# Altium schematic symbol library jetson-nano-baseboard.SchLib: 105 symbols
Pins are listed as number, name and electrical type; pins without a type are passive.

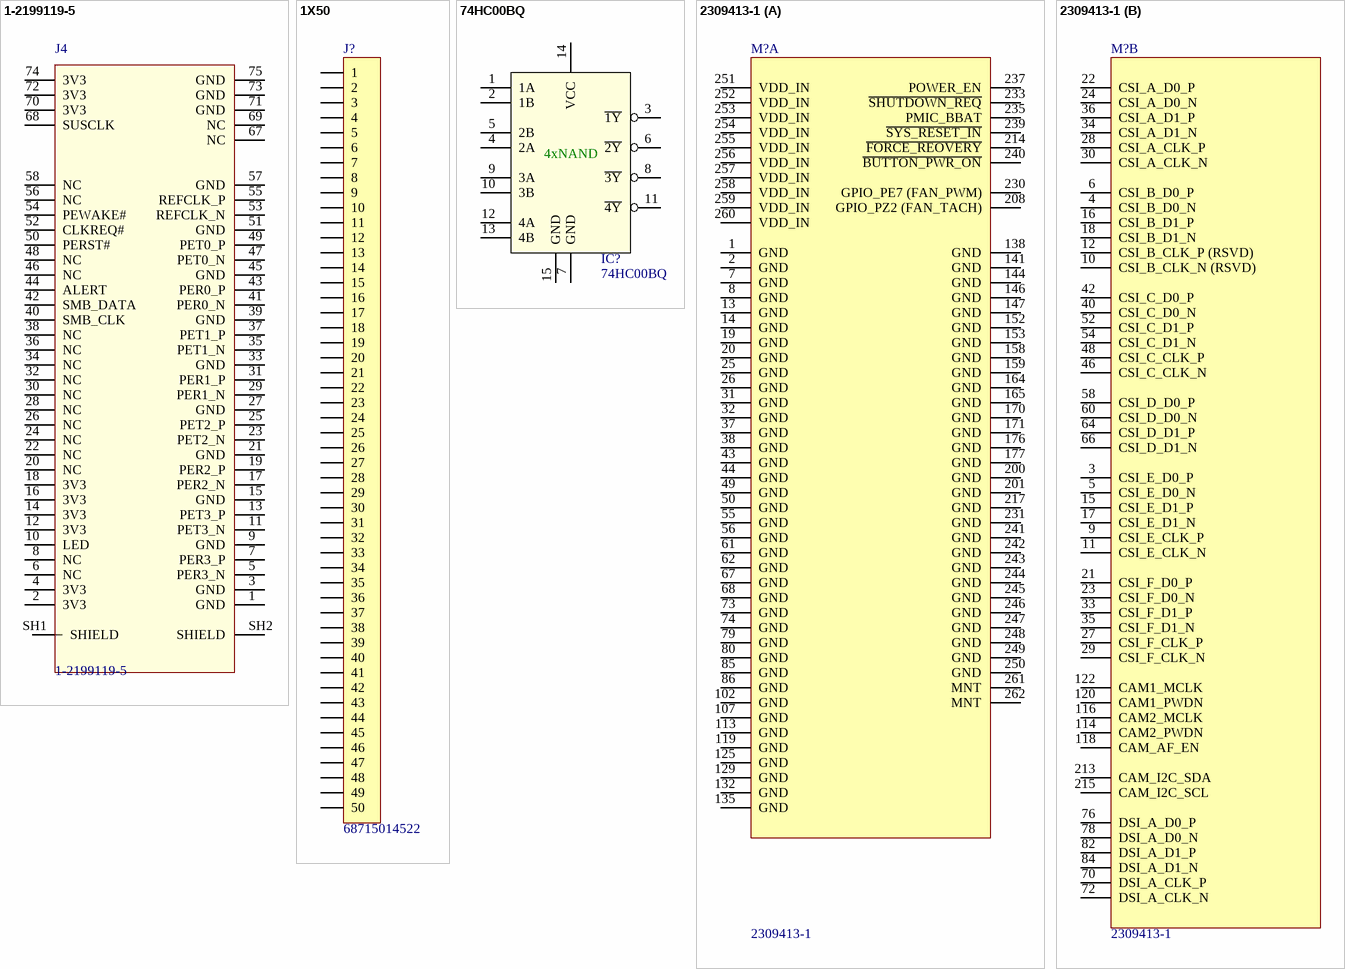
[diagram p0: symbols 1-2199119-5 to 2309413-1]

## 1-2199119-5
designator J4
CONN FEMALE 67POS 0.020 GOLD; Manufacturer: TE; PartNumber: 1-2199119-5; Value: 1-2199119-5
footprint 1-2199119-5
pins: 1 GND, 2 3V3, 3 GND, 4 3V3, 5 PER3_N, 6 NC, 7 PER3_P, 8 NC, 9 GND, 10 LED, 11 PET3_N, 12 3V3, 13 PET3_P, 14 3V3, 15 GND, 16 3V3, 17 PER2_N, 18 3V3, 19 PER2_P, 20 NC, 21 GND, 22 NC, 23 PET2_N, 24 NC, 25 PET2_P, 26 NC, 27 GND, 28 NC, 29 PER1_N, 30 NC, 31 PER1_P, 32 NC, 33 GND, 34 NC, 35 PET1_N, 36 NC, 37 PET1_P, 38 NC, 39 GND, 40 SMB_CLK, 41 PER0_N, 42 SMB_DATA, 43 PER0_P, 44 ALERT, 45 GND, 46 NC, 47 PET0_N, 48 NC, 49 PET0_P, 50 PERST#, 51 GND, 52 CLKREQ#, 53 REFCLK_N, 54 PEWAKE#, 55 REFCLK_P, 56 NC, 57 GND, 58 NC, 67 NC, 68 SUSCLK, 69 NC, 70 3V3, 71 GND, 72 3V3, 73 GND, 74 3V3, 75 GND, SH1 SHIELD, SH2 SHIELD

## 1X50
designator J?, comment 68715014522
0.50mm SMT ZIF Horizontal Bottom Contact WR-FPC; Manufacturer: WURTH ELEKTRONIK; PartNumber: WE-687-150-145-22; Pinsnumber: 50; Value: 68715014522; PartSymbol: 68715014522
footprint 68715014522
pins: 1, 2, 3, 4, 5, 6, 7, 8, 9, 10, 11, 12, 13, 14, 15, 16, 17, 18, 19, 20, 21, 22, 23, 24, 25, 26, 27, 28, 29, 30, 31, 32, 33, 34, 35, 36, 37, 38, 39, 40, 41, 42, 43, 44, 45, 46, 47, 48, 49, 50

## 74HC00BQ
designator IC?
2 NAND Gate, 4 channel; Manufacturer: NEXPERIA; PartNumber: 74HC00BQ; Value: 74HC00BQ; PartSymbol: 74HC00BQ
footprint DHVQFN14
pins: 1 1A, 2 1B, 3 ~{1Y}, 4 2A, 5 2B, 6 ~{2Y}, 7 GND, 8 ~{3Y}, 9 3A, 10 3B, 11 ~{4Y}, 12 4A, 13 4B, 14 VCC, 15 GND
text: 4xNAND

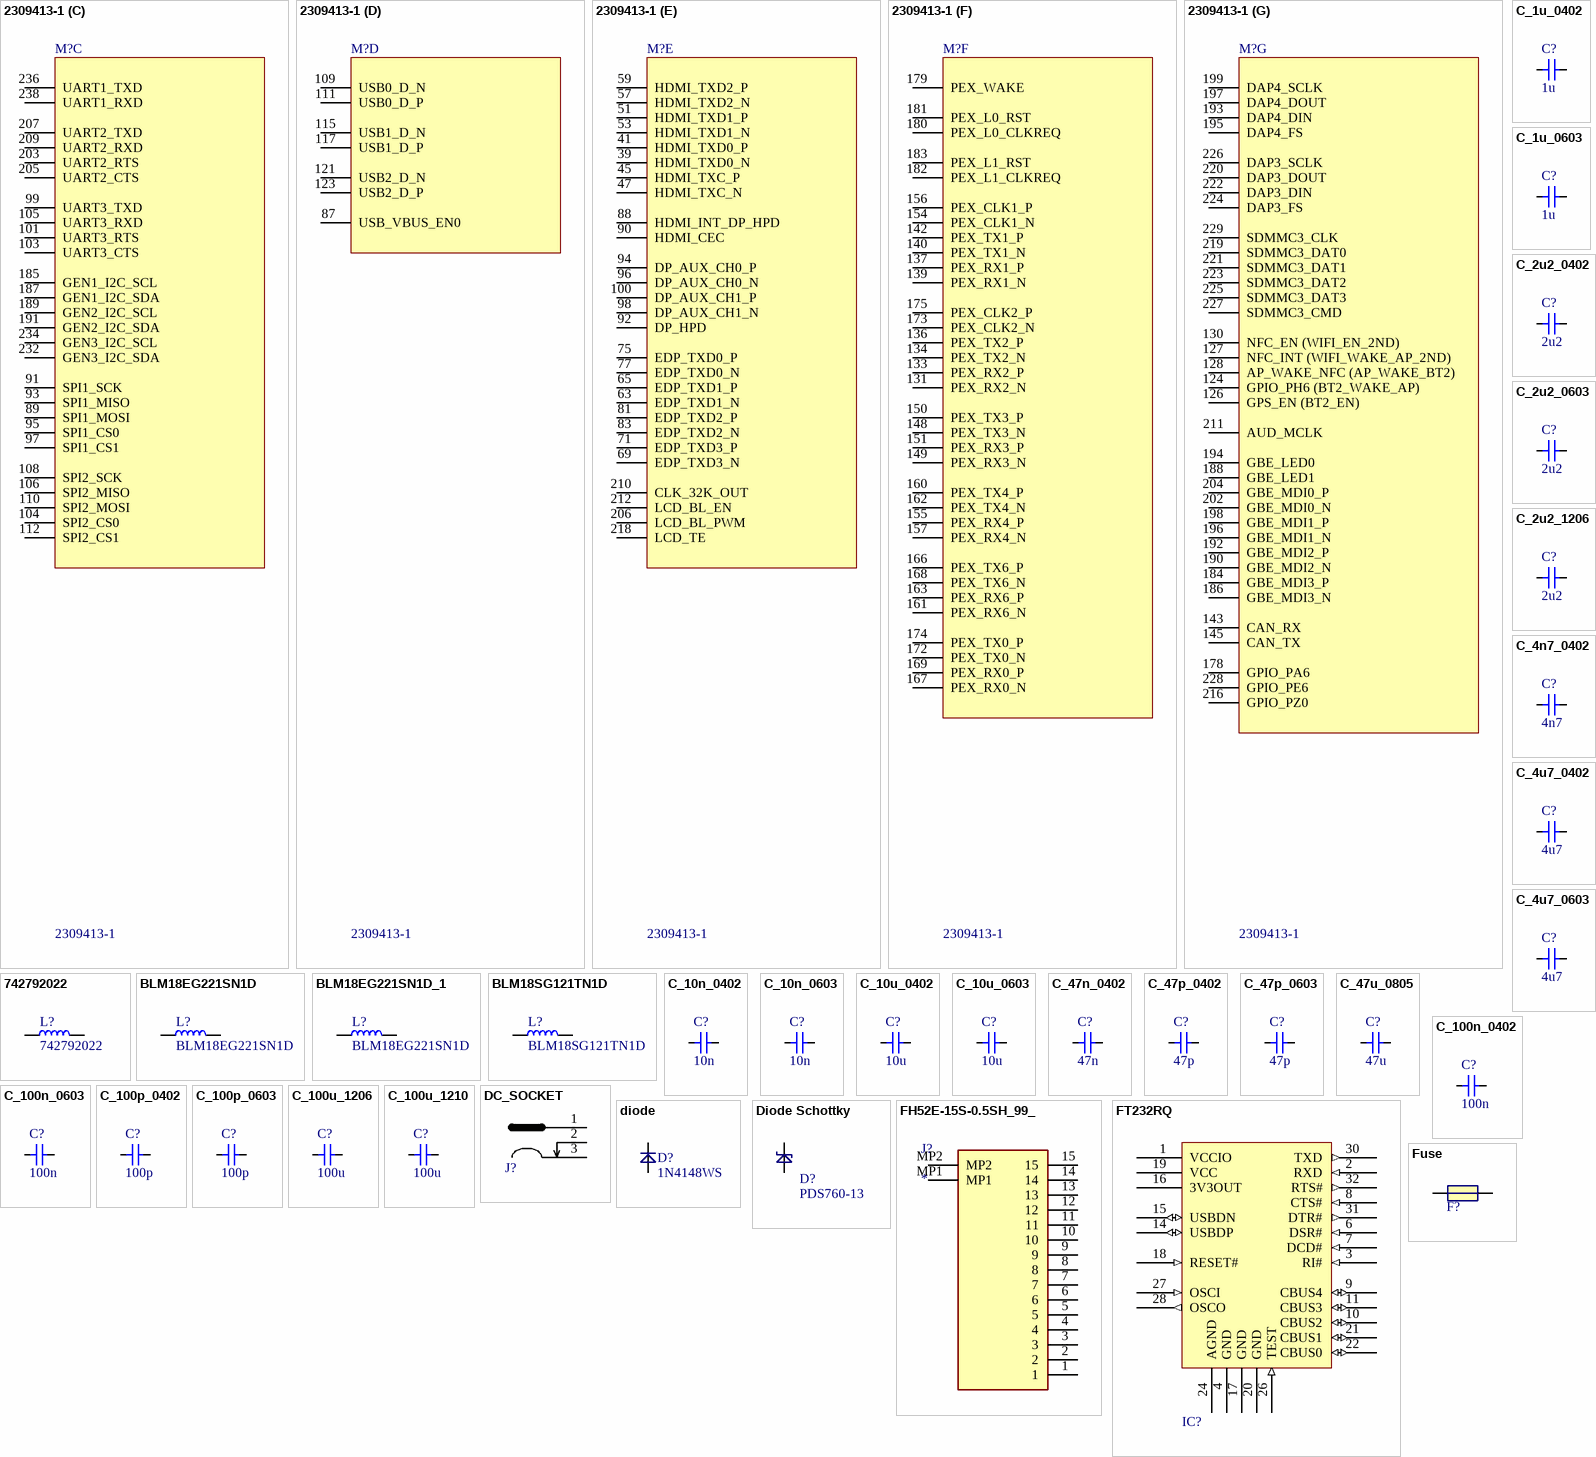
[diagram p1: symbols 2309413-1 to Fuse]

## 2309413-1
designator M?
Memory Socket, DDR4, SODIMM Socket, 260 Contacts, Copper Alloy, Gold Plated Contacts; Manufacturer: TE CONNECTIVITY; PartNumber: 2309413-1; Value: 2309413-1; PartSymbol: 2309413-1
footprint jetson-nano-connector
part A pins: 1 GND, 2 GND, 7 GND, 8 GND, 13 GND, 14 GND, 19 GND, 20 GND, 25 GND, 26 GND, 31 GND, 32 GND, 37 GND, 38 GND, 43 GND, 44 GND, 49 GND, 50 GND, 55 GND, 56 GND, 61 GND, 62 GND, 67 GND, 68 GND, 73 GND, 74 GND, 79 GND, 80 GND, 85 GND, 86 GND, 102 GND, 107 GND, 113 GND, 119 GND, 125 GND, 129 GND, 132 GND, 135 GND, 138 GND, 141 GND, 144 GND, 146 GND, 147 GND, 152 GND, 153 GND, 158 GND, 159 GND, 164 GND, 165 GND, 170 GND, 171 GND, 176 GND, 177 GND, 200 GND, 201 GND, 208 GPIO_PZ2 (FAN_TACH), 214 ~{FORCE_REOVERY}, 217 GND, 230 GPIO_PE7 (FAN_PWM), 231 GND, 233 ~{SHUTDOWN_REQ}, 235 PMIC_BBAT, 237 POWER_EN, 239 ~{SYS_RESET_IN}, 240 ~{BUTTON_PWR_ON}, 241 GND, 242 GND, 243 GND, 244 GND, 245 GND, 246 GND, 247 GND, 248 GND, 249 GND, 250 GND, 251 VDD_IN, 252 VDD_IN, 253 VDD_IN, 254 VDD_IN, 255 VDD_IN, 256 VDD_IN, 257 VDD_IN, 258 VDD_IN, 259 VDD_IN, 260 VDD_IN, 261 MNT, 262 MNT
part B pins: 3 CSI_E_D0_P, 4 CSI_B_D0_N, 5 CSI_E_D0_N, 6 CSI_B_D0_P, 9 CSI_E_CLK_P, 10 CSI_B_CLK_N (RSVD), 11 CSI_E_CLK_N, 12 CSI_B_CLK_P (RSVD), 15 CSI_E_D1_P, 16 CSI_B_D1_P, 17 CSI_E_D1_N, 18 CSI_B_D1_N, 21 CSI_F_D0_P, 22 CSI_A_D0_P, 23 CSI_F_D0_N, 24 CSI_A_D0_N, 27 CSI_F_CLK_P, 28 CSI_A_CLK_P, 29 CSI_F_CLK_N, 30 CSI_A_CLK_N, 33 CSI_F_D1_P, 34 CSI_A_D1_N, 35 CSI_F_D1_N, 36 CSI_A_D1_P, 40 CSI_C_D0_N, 42 CSI_C_D0_P, 46 CSI_C_CLK_N, 48 CSI_C_CLK_P, 52 CSI_C_D1_P, 54 CSI_C_D1_N, 58 CSI_D_D0_P, 60 CSI_D_D0_N, 64 CSI_D_D1_P, 66 CSI_D_D1_N, 70 DSI_A_CLK_P, 72 DSI_A_CLK_N, 76 DSI_A_D0_P, 78 DSI_A_D0_N, 82 DSI_A_D1_P, 84 DSI_A_D1_N, 114 CAM2_PWDN, 116 CAM2_MCLK, 118 CAM_AF_EN, 120 CAM1_PWDN, 122 CAM1_MCLK, 213 CAM_I2C_SDA, 215 CAM_I2C_SCL
part C pins: 89 SPI1_MOSI, 91 SPI1_SCK, 93 SPI1_MISO, 95 SPI1_CS0, 97 SPI1_CS1, 99 UART3_TXD, 101 UART3_RTS, 103 UART3_CTS, 104 SPI2_CS0, 105 UART3_RXD, 106 SPI2_MISO, 108 SPI2_SCK, 110 SPI2_MOSI, 112 SPI2_CS1, 185 GEN1_I2C_SCL, 187 GEN1_I2C_SDA, 189 GEN2_I2C_SCL, 191 GEN2_I2C_SDA, 203 UART2_RTS, 205 UART2_CTS, 207 UART2_TXD, 209 UART2_RXD, 232 GEN3_I2C_SDA, 234 GEN3_I2C_SCL, 236 UART1_TXD, 238 UART1_RXD
part D pins: 87 USB_VBUS_EN0, 109 USB0_D_N, 111 USB0_D_P, 115 USB1_D_N, 117 USB1_D_P, 121 USB2_D_N, 123 USB2_D_P
part E pins: 39 HDMI_TXD0_N, 41 HDMI_TXD0_P, 45 HDMI_TXC_P, 47 HDMI_TXC_N, 51 HDMI_TXD1_P, 53 HDMI_TXD1_N, 57 HDMI_TXD2_N, 59 HDMI_TXD2_P, 63 EDP_TXD1_N, 65 EDP_TXD1_P, 69 EDP_TXD3_N, 71 EDP_TXD3_P, 75 EDP_TXD0_P, 77 EDP_TXD0_N, 81 EDP_TXD2_P, 83 EDP_TXD2_N, 88 HDMI_INT_DP_HPD, 90 HDMI_CEC, 92 DP_HPD, 94 DP_AUX_CH0_P, 96 DP_AUX_CH0_N, 98 DP_AUX_CH1_N, 100 DP_AUX_CH1_P, 206 LCD_BL_PWM, 210 CLK_32K_OUT, 212 LCD_BL_EN, 218 LCD_TE
part F pins: 131 PEX_RX2_N, 133 PEX_RX2_P, 134 PEX_TX2_N, 136 PEX_TX2_P, 137 PEX_RX1_P, 139 PEX_RX1_N, 140 PEX_TX1_N, 142 PEX_TX1_P, 148 PEX_TX3_N, 149 PEX_RX3_N, 150 PEX_TX3_P, 151 PEX_RX3_P, 154 PEX_CLK1_N, 155 PEX_RX4_P, 156 PEX_CLK1_P, 157 PEX_RX4_N, 160 PEX_TX4_P, 161 PEX_RX6_N, 162 PEX_TX4_N, 163 PEX_RX6_P, 166 PEX_TX6_P, 167 PEX_RX0_N, 168 PEX_TX6_N, 169 PEX_RX0_P, 172 PEX_TX0_N, 173 PEX_CLK2_N, 174 PEX_TX0_P, 175 PEX_CLK2_P, 179 PEX_WAKE, 180 PEX_L0_CLKREQ, 181 PEX_L0_RST, 182 PEX_L1_CLKREQ, 183 PEX_L1_RST
part G pins: 124 GPIO_PH6 (BT2_WAKE_AP), 126 GPS_EN (BT2_EN), 127 NFC_INT (WIFI_WAKE_AP_2ND), 128 AP_WAKE_NFC (AP_WAKE_BT2), 130 NFC_EN (WIFI_EN_2ND), 143 CAN_RX, 145 CAN_TX, 178 GPIO_PA6, 184 GBE_MDI3_P, 186 GBE_MDI3_N, 188 GBE_LED1, 190 GBE_MDI2_N, 192 GBE_MDI2_P, 193 DAP4_DIN, 194 GBE_LED0, 195 DAP4_FS, 196 GBE_MDI1_N, 197 DAP4_DOUT, 198 GBE_MDI1_P, 199 DAP4_SCLK, 202 GBE_MDI0_N, 204 GBE_MDI0_P, 211 AUD_MCLK, 216 GPIO_PZ0, 219 SDMMC3_DAT0, 220 DAP3_DOUT, 221 SDMMC3_DAT1, 222 DAP3_DIN, 223 SDMMC3_DAT2, 224 DAP3_FS, 225 SDMMC3_DAT3, 226 DAP3_SCLK, 227 SDMMC3_CMD, 228 GPIO_PE6, 229 SDMMC3_CLK

## 742792022
designator L?
MURATA  BLM18EG221SN1D  FERRITE BEAD, 0.05OHM, 2A, 0603; Manufacturer: WURTH ELEKTRONIK; PartNumber: 742792022; Value: 742792022; PartSymbol: 742792022
footprint 0805
pins: 1, 2

## BLM18EG221SN1D
designator L?
MURATA  BLM18EG221SN1D  FERRITE BEAD, 0.05OHM, 2A, 0603; PartNumber: BLM18EG221SN1D; Value: BLM18EG221SN1D; Manufacturer: MURATA; PartSymbol: BLM18EG221SN1D
footprint 0603 (Chip Inductor Ferrite Bead 0603)
pins: 1, 2

## BLM18EG221SN1D_1
designator L?, comment BLM18EG221SN1D
MURATA  BLM18EG221SN1D  FERRITE BEAD, 0.05OHM, 2A, 0603; PartNumber: BLM18EG221SN1D; Value: BLM18EG221SN1D; Manufacturer: MURATA; PartSymbol: BLM18EG221SN1D
footprint 0603 (Chip Inductor Ferrite Bead 0603)
pins: 1, 2

## BLM18SG121TN1D
designator L?
FERRITE BEAD, 0.025OHM, 3A, 0603; Manufacturer: MURATA; PartNumber: BLM18SG121TN1D; Value: BLM18SG121TN1D; PartSymbol: BLM18SG121TN1D
footprint 0603 (Chip Inductor Ferrite Bead 0603)
pins: 1, 2

## C_1u_0402
designator C?, comment 1u
MLCC SMT Capacitor 1uF 0402; PartNumber: C_1u_0402; Manufacturer: MULTICOMP; PartSymbol: MC0402F105Z6R3CT; Value: 1u
footprint 0402
pins: 1, 2
1 alternate drawing of the same symbol

## C_1u_0603
designator C?, comment 1u
MLCC SMT Capacitor 1uF 0603; PartNumber: C_1u_0603; Manufacturer: KEMET; PartSymbol: C0603C105M4PACTU; Value: 1u
footprint 0603 (Chip Inductor Ferrite Bead 0603)
pins: 1, 2
1 alternate drawing of the same symbol

## C_2u2_0402
designator C?, comment 2u2
MLCC SMT Capacitor 2.2uF 0402; PartNumber: C_2u2_0402; Manufacturer: TDK; PartSymbol: C1005X5R1A225K050BC; Value: 2u2
footprint 0402
pins: 1, 2
1 alternate drawing of the same symbol

## C_2u2_0603
designator C?, comment 2u2
MLCC SMT Capacitor 2.2uF 0603; PartNumber: C_2u2_0603; Manufacturer: TDK; PartSymbol: C1005X5R1A225K050BC; Value: 2u2
footprint 0603 (Chip Inductor Ferrite Bead 0603)
pins: 1, 2
1 alternate drawing of the same symbol

## C_2u2_1206
designator C?, comment 2u2
MLCC SMT Capacitor 2.2uF 1206; PartNumber: C_2u2_1206; Manufacturer: KEMET; PartSymbol: C1206C225J5RACTU; Value: 2u2
footprint 1206
pins: 1, 2
1 alternate drawing of the same symbol

## C_4n7_0402
designator C?, comment 4n7
MLCC SMT Capacitor 4.7 nF 0402; PartNumber: C_4n7_0402; Manufacturer: TDK; PartSymbol: CGA2B3X7S2A472K050BB; Value: 4n7
footprint 0402
pins: 1, 2
1 alternate drawing of the same symbol

## C_4u7_0402
designator C?, comment 4u7
MLCC SMT Capacitor 4.7uF 0402; PartNumber: C_4u7_0402; Manufacturer: MURATA; PartSymbol: GRM155R60G475ME; Value: 4u7
footprint 0402
pins: 1, 2
1 alternate drawing of the same symbol

## C_4u7_0603
designator C?, comment 4u7
MLCC SMT Capacitor 4.7uF 0603; PartNumber: C_4u7_0603; Manufacturer: MULTICOMP; PartSymbol: MC0603X475K6R3CT; Value: 4u7
footprint 0603 (Chip Inductor Ferrite Bead 0603)
pins: 1, 2
1 alternate drawing of the same symbol

## C_10n_0402
designator C?, comment 10n
MLCC SMT Capacitor 10 nF 0402; PartNumber: C_10n_0402; Manufacturer: AVX; PartSymbol: 04025G103ZAT2A; Value: 10n
footprint 0402
pins: 1, 2
1 alternate drawing of the same symbol

## C_10n_0603
designator C?, comment 10n
MLCC SMT Capacitor 10 nF 0603; PartNumber: C_10n_0603; Manufacturer: AVX; PartSymbol: 06031C103JAT2A; Value: 10n
footprint 0603 (Chip Inductor Ferrite Bead 0603)
pins: 1, 2
1 alternate drawing of the same symbol

## C_10u_0402
designator C?, comment 10u
MLCC SMT Capacitor 10uF 0402; PartNumber: C_10u_0402; Manufacturer: TDK; PartSymbol: C1005X5R0J106M050BC; Value: 10u
footprint 0402
pins: 1, 2
1 alternate drawing of the same symbol

## C_10u_0603
designator C?, comment 10u
MLCC SMT Capacitor 10uF 0603; PartNumber: C_10u_0603; Manufacturer: Walsin; PartSymbol: 0603X106M6R3CT; Value: 10u
footprint 0603 (Chip Inductor Ferrite Bead 0603)
pins: 1, 2
1 alternate drawing of the same symbol

## C_47n_0402
designator C?, comment 47n
MLCC SMT Capacitor 47nF 0402; PartNumber: C_47n_0402; Manufacturer: MULTICOMP; PartSymbol: MC0402X473K160CT; Value: 47n
footprint 0402
pins: 1, 2
1 alternate drawing of the same symbol

## C_47p_0402
designator C?, comment 47p
MLCC SMT Capacitor 47pF 0402; PartNumber: C_47p_0402; Manufacturer: KEMET; PartSymbol: C0402C470J5GACTU; Value: 47p
footprint 0402
pins: 1, 2
1 alternate drawing of the same symbol

## C_47p_0603
designator C?, comment 47p
MLCC SMT Capacitor 47pF 0603; PartNumber: C_47p_0603; Manufacturer: AVX; PartSymbol: 06031A470KAT2A; Value: 47p
footprint 0603 (Chip Inductor Ferrite Bead 0603)
pins: 1, 2
1 alternate drawing of the same symbol

## C_47u_0805
designator C?, comment 47u
MLCC SMT Capacitor 47uF 0805; PartNumber: C_47u_0805; Manufacturer: KEMET; PartSymbol: C0805C476M9PACTU; Value: 47u
footprint 0805
pins: 1, 2
1 alternate drawing of the same symbol

## C_100n_0402
designator C?, comment 100n
MLCC SMT Capacitor 100n 0402; PartNumber: C_100n_0402; Manufacturer: TDK; PartSymbol: C1005X5R0J104K050BA; Value: 100n
footprint 0402
pins: 1, 2
1 alternate drawing of the same symbol

## C_100n_0603
designator C?, comment 100n
MLCC SMT Capacitor 100nF 0603; PartNumber: C_100n_0603; Manufacturer: AVX; PartSymbol: 0603YC104KAZ2A; Value: 100n
footprint 0603 (Chip Inductor Ferrite Bead 0603)
pins: 1, 2
1 alternate drawing of the same symbol

## C_100p_0402
designator C?, comment 100p
MLCC SMT Capacitor 100p 0402; PartNumber: C_100p_0402; Manufacturer: AVX; PartSymbol: 04023A101JAT2A; Value: 100p
footprint 0402
pins: 1, 2
1 alternate drawing of the same symbol

## C_100p_0603
designator C?, comment 100p
MLCC SMT Capacitor 100pF 0603; PartNumber: C_100p_0603; Manufacturer: Walsin; PartSymbol: 0603N101J500CT; Value: 100p
footprint 0603 (Chip Inductor Ferrite Bead 0603)
pins: 1, 2
1 alternate drawing of the same symbol

## C_100u_1206
designator C?, comment 100u
MLCC SMT Capacitor 100uF 1206; PartNumber: C_100u_1206; Manufacturer: Vishay; PartSymbol: TMCMA0J107MTRF; Value: 100u
footprint 1206
pins: 1, 2
1 alternate drawing of the same symbol

## C_100u_1210
designator C?, comment 100u
MLCC SMT Capacitor 100uF 1210; PartNumber: C_100u_1210; Manufacturer: SAMSUNG; PartSymbol: CL32A107MQVNNNE; Value: 100u
footprint 1210
pins: 1, 2
1 alternate drawing of the same symbol

## DC_SOCKET
designator J?, comment MJ-179PH  (value not drawn)
DC Power Connector, Jack, 4 A, 1.95 mm, PCB Mount, Through Hole; PartNumber: DC_SOCKET; Manufacturer: MULTICOMP; PartSymbol: MJ-179PH; Value: MJ-179PH
footprint DC_SOCKET
pins: 1, 2, 3

## diode
designator D?, comment 1N4148WS
Diode small signal; Manufacturer: ON SEMICONDUCTOR; PartNumber: 1N4148WS; Value: 1N4148WS; PartSymbol: 1N4148WS
footprint SOD-323
pins: A, C

## Diode Schottky
designator D?, comment PDS760-13
DIODE SCHOTTKY 60V 7A POWERDI5; Manufacturer: DIODES INC.; PartNumber: PDS760-13; Value: PDS760-13; PartSymbol: PDS760-13
footprint PowerDI
pins: A, C

## FH52E-15S-0.5SH_99_
designator J?
Connector; Manufacturer_Name: Hirose; Manufacturer_Part_Number: FH52E-15S-0.5SH(99); Description: FFC & FPC Connectors 0.5MM 15P LNG MTL FITNG SMT VERT MNT; Datasheet Link: https://componentsearchengine.com/Datasheets/1/FH52E-15S-0.5SH(99).pdf; Height: 2.2mm
footprint FH52E15S05SH99
pins: 1, 2, 3, 4, 5, 6, 7, 8, 9, 10, 11, 12, 13, 14, 15, MP1, MP2

## FT232RQ
designator IC?  (value not drawn)
USB to serial UART interface; Manufacturer: FTDI; PartSymbol: FT232RQ-REEL; Value: FT232RQ; PartNumber: FT232RQ
pins: 1 VCCIO (power), 2 RXD (in), 3 RI# (in), 4 GND (power), 6 DSR# (in), 7 DCD# (in), 8 CTS# (in), 9 CBUS4 (io), 10 CBUS2 (io), 11 CBUS3 (io), 14 USBDP (io), 15 USBDN (io), 16 3V3OUT (power), 17 GND (power), 18 RESET# (in), 19 VCC (power), 20 GND (power), 21 CBUS1 (io), 22 CBUS0 (io), 24 AGND (power), 26 TEST (in), 27 OSCI (in), 28 OSCO (out), 30 TXD (out), 31 DTR# (out), 32 RTS# (out)

## Fuse
designator F?, comment Value  (value not drawn)
PTC RESET 6V LO RHO 1206 4.50A; PartNumber: LITTELFUSE_1206L450SLWR; Manufacturer: LITTELFUSE; Value: 1206L450SLWR; PartSymbol: 1206L450SLWR
pins: 1, 2

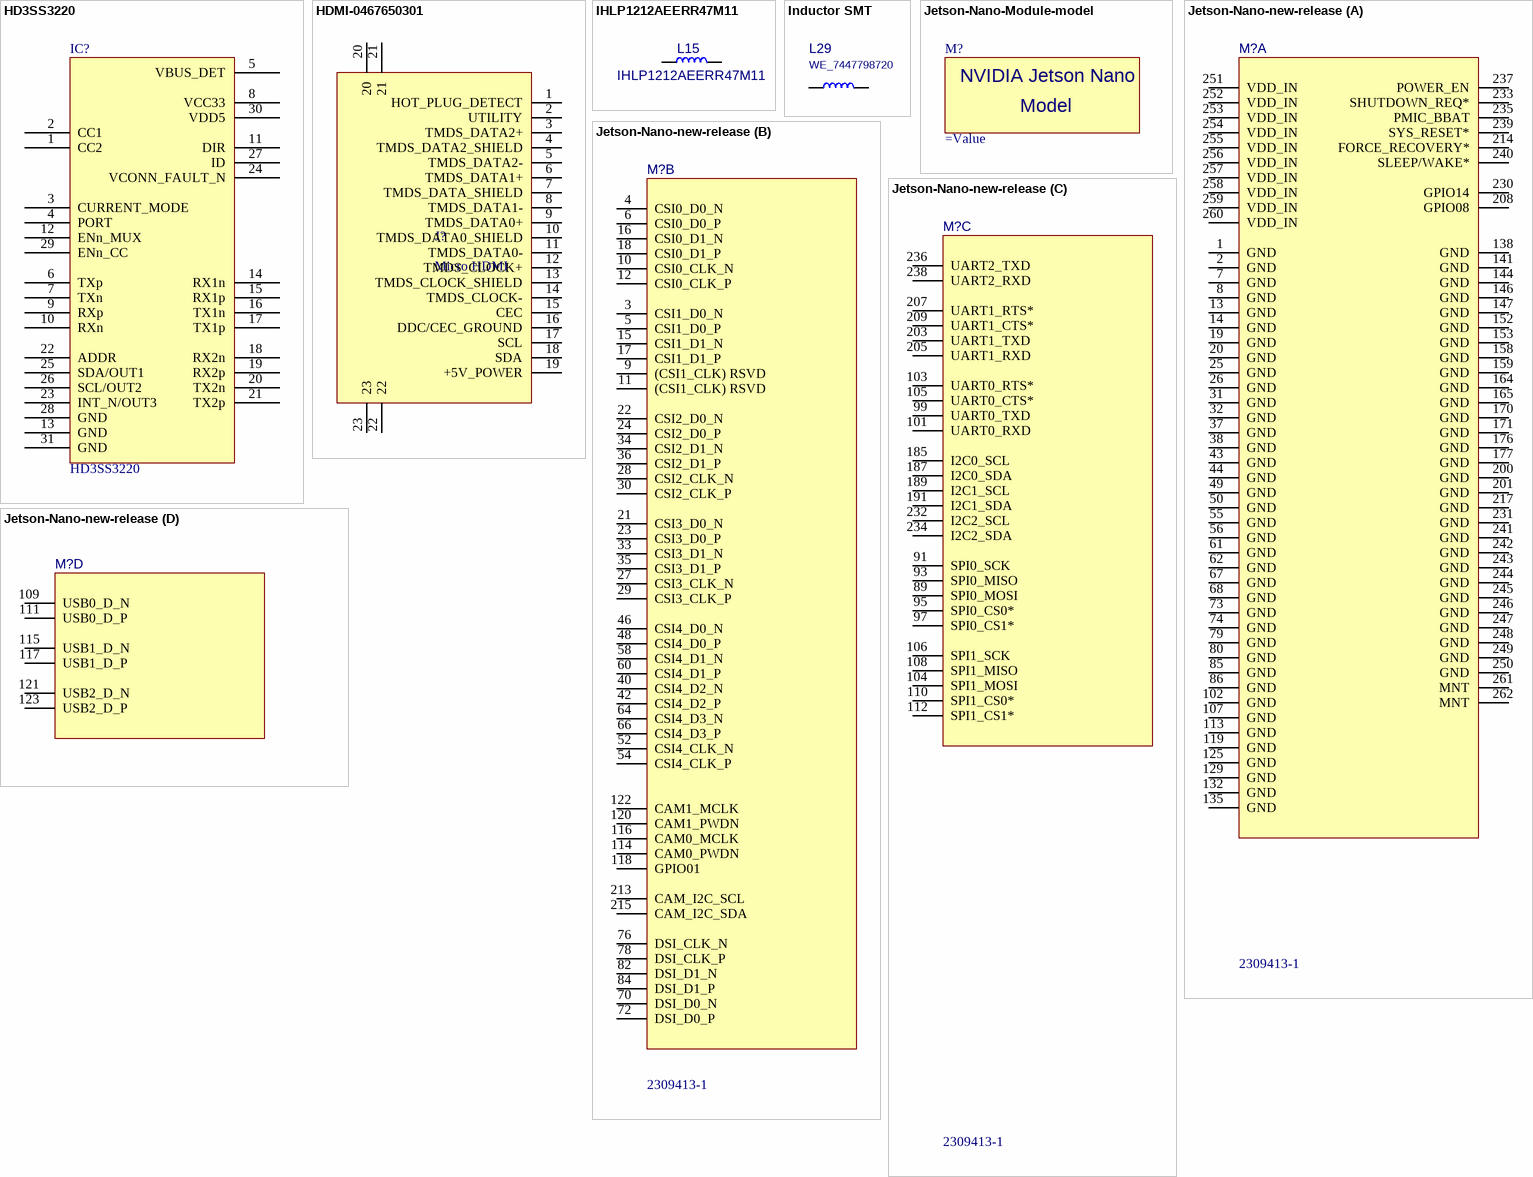
[diagram p2: symbols HD3SS3220 to Jetson-Nano-new-release]

## HD3SS3220
designator IC?
IC DRP PORT CTLR USB-C 30WQFN; Manufacturer: Texas Instruments; PartSymbol: HD3SS3220RNHT; PartNumber: HD3SS3220; Value: HD3SS3220
footprint RNH0030A
pins: 1 CC2, 2 CC1, 3 CURRENT_MODE, 4 PORT, 5 VBUS_DET, 6 TXp, 7 TXn, 8 VCC33, 9 RXp, 10 RXn, 11 DIR, 12 ENn_MUX, 13 GND, 14 RX1n, 15 RX1p, 16 TX1n, 17 TX1p, 18 RX2n, 19 RX2p, 20 TX2n, 21 TX2p, 22 ADDR, 23 INT_N/OUT3, 24 VCONN_FAULT_N, 25 SDA/OUT1, 26 SCL/OUT2, 27 ID, 28 GND, 29 ENn_CC, 30 VDD5, 31 GND

## HDMI-0467650301
designator J?, comment Micro HDMI
footprint HDMI-0467650301
pins: 1 HOT_PLUG_DETECT, 2 UTILITY, 3 TMDS_DATA2+, 4 TMDS_DATA2_SHIELD, 5 TMDS_DATA2-, 6 TMDS_DATA1+, 7 TMDS_DATA_SHIELD, 8 TMDS_DATA1-, 9 TMDS_DATA0+, 10 TMDS_DATA0_SHIELD, 11 TMDS_DATA0-, 12 TMDS_CLOCK+, 13 TMDS_CLOCK_SHIELD, 14 TMDS_CLOCK-, 15 CEC, 16 DDC/CEC_GROUND, 17 SCL, 18 SDA, 19 +5V_POWER, 20, 21, 22, 23

## IHLP1212AEERR47M11
designator L15
FIXED IND 470NH 6.7A 15 MOHM SMD; Manufacturer: VISHAY; Class: Inductance; PartNumber: IHLP1212AEERR47M11; Value: IHLP1212AEERR47M11; RatedCurrent: 6.7A; Inductance: 470nH; PartSymbol: IHLP1212AEERR47M11
footprint IHLP-1212AE
pins: 1, 2

## Inductor SMT
designator L29, comment WE_7447798720
Fixed Inductors WE-PDF 1064 7.2uH 7.9A 12.8mOhm; Manufacturer: WURTH ELEKTRONIK; Class: Inductance; PartNumber: WE_7447798720; Value: WE_7447798720; Supplier1: Mouser; SupplierPartNumber1: 710-7447798720; RatedCurrent: 7.9A; Inductance: 7.2uH; PartSymbol: 7447798720
footprint WE_7447798720
pins: 1, 2

## Jetson-Nano-Module-model
designator M?
PartNumber: jetson-nano-module
footprint jetson-nano-module
text: NVIDIA Jetson Nano; Model

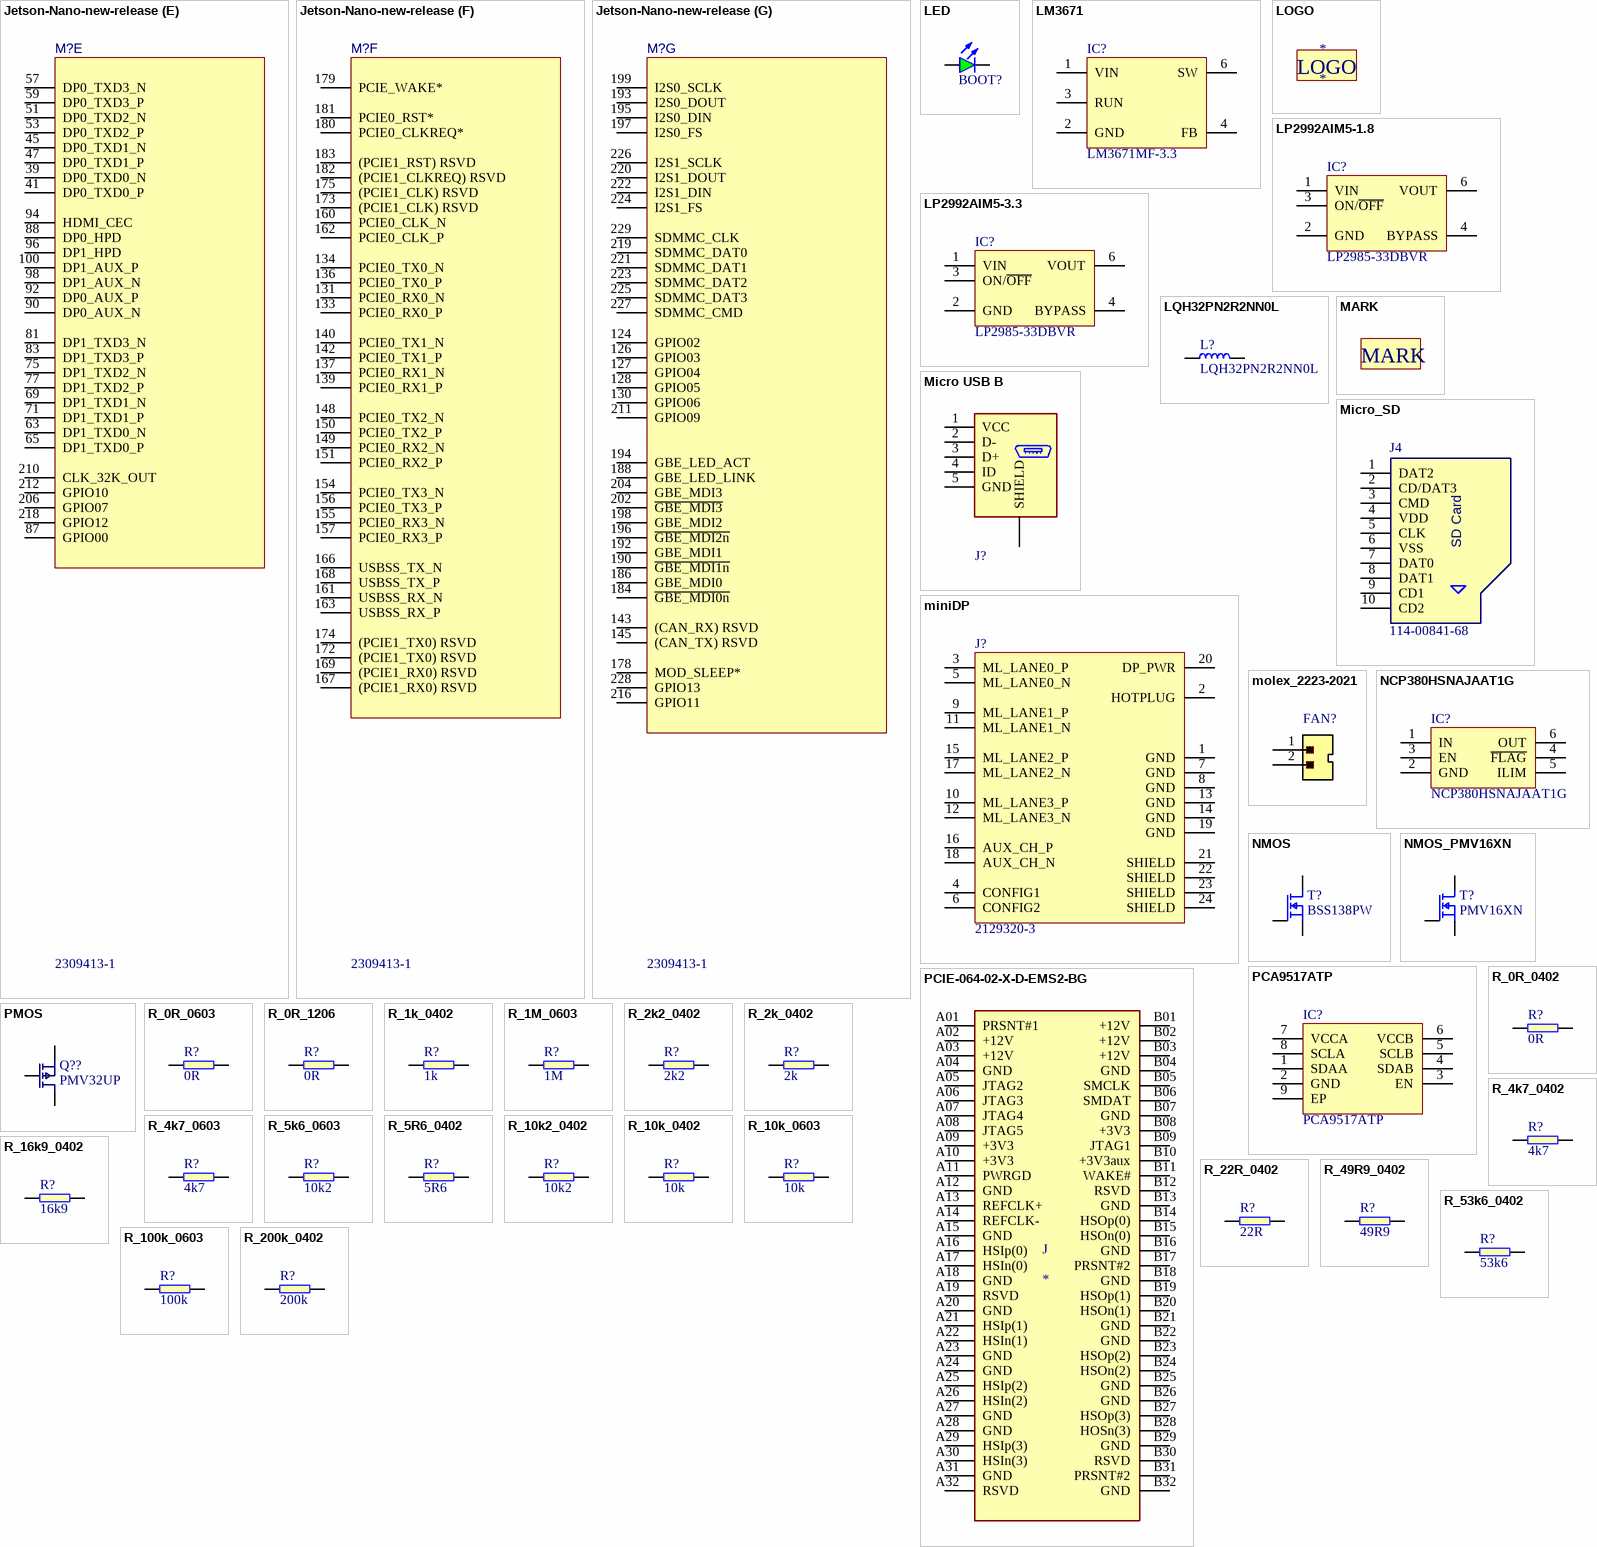
[diagram p3: symbols Jetson-Nano-new-release to R_200k_0402]

## Jetson-Nano-new-release
designator M?, comment 2309413-1
Manufacturer: TE Connectivity; PartNumber: 2309413-1; PartSymbol: 2309413-1; Value: 2309413-1
footprint jetson-nano-connector
part A pins: 1 GND, 2 GND, 7 GND, 8 GND, 13 GND, 14 GND, 19 GND, 20 GND, 25 GND, 26 GND, 31 GND, 32 GND, 37 GND, 38 GND, 43 GND, 44 GND, 49 GND, 50 GND, 55 GND, 56 GND, 61 GND, 62 GND, 67 GND, 68 GND, 73 GND, 74 GND, 79 GND, 80 GND, 85 GND, 86 GND, 102 GND, 107 GND, 113 GND, 119 GND, 125 GND, 129 GND, 132 GND, 135 GND, 138 GND, 141 GND, 144 GND, 146 GND, 147 GND, 152 GND, 153 GND, 158 GND, 159 GND, 164 GND, 165 GND, 170 GND, 171 GND, 176 GND, 177 GND, 200 GND, 201 GND, 208 GPIO08, 214 FORCE_RECOVERY*, 217 GND, 230 GPIO14, 231 GND, 233 SHUTDOWN_REQ*, 235 PMIC_BBAT, 237 POWER_EN, 239 SYS_RESET*, 240 SLEEP/WAKE*, 241 GND, 242 GND, 243 GND, 244 GND, 245 GND, 246 GND, 247 GND, 248 GND, 249 GND, 250 GND, 251 VDD_IN, 252 VDD_IN, 253 VDD_IN, 254 VDD_IN, 255 VDD_IN, 256 VDD_IN, 257 VDD_IN, 258 VDD_IN, 259 VDD_IN, 260 VDD_IN, 261 MNT, 262 MNT
part B pins: 3 CSI1_D0_N, 4 CSI0_D0_N, 5 CSI1_D0_P, 6 CSI0_D0_P, 9 (CSI1_CLK) RSVD, 10 CSI0_CLK_N, 11 (CSI1_CLK) RSVD, 12 CSI0_CLK_P, 15 CSI1_D1_N, 16 CSI0_D1_N, 17 CSI1_D1_P, 18 CSI0_D1_P, 21 CSI3_D0_N, 22 CSI2_D0_N, 23 CSI3_D0_P, 24 CSI2_D0_P, 27 CSI3_CLK_N, 28 CSI2_CLK_N, 29 CSI3_CLK_P, 30 CSI2_CLK_P, 33 CSI3_D1_N, 34 CSI2_D1_N, 35 CSI3_D1_P, 36 CSI2_D1_P, 40 CSI4_D2_N, 42 CSI4_D2_P, 46 CSI4_D0_N, 48 CSI4_D0_P, 52 CSI4_CLK_N, 54 CSI4_CLK_P, 58 CSI4_D1_N, 60 CSI4_D1_P, 64 CSI4_D3_N, 66 CSI4_D3_P, 70 DSI_D0_N, 72 DSI_D0_P, 76 DSI_CLK_N, 78 DSI_CLK_P, 82 DSI_D1_N, 84 DSI_D1_P, 114 CAM0_PWDN, 116 CAM0_MCLK, 118 GPIO01, 120 CAM1_PWDN, 122 CAM1_MCLK, 213 CAM_I2C_SCL, 215 CAM_I2C_SDA
part C pins: 89 SPI0_MOSI, 91 SPI0_SCK, 93 SPI0_MISO, 95 SPI0_CS0*, 97 SPI0_CS1*, 99 UART0_TXD, 101 UART0_RXD, 103 UART0_RTS*, 104 SPI1_MOSI, 105 UART0_CTS*, 106 SPI1_SCK, 108 SPI1_MISO, 110 SPI1_CS0*, 112 SPI1_CS1*, 185 I2C0_SCL, 187 I2C0_SDA, 189 I2C1_SCL, 191 I2C1_SDA, 203 UART1_TXD, 205 UART1_RXD, 207 UART1_RTS*, 209 UART1_CTS*, 232 I2C2_SCL, 234 I2C2_SDA, 236 UART2_TXD, 238 UART2_RXD
part D pins: 109 USB0_D_N, 111 USB0_D_P, 115 USB1_D_N, 117 USB1_D_P, 121 USB2_D_N, 123 USB2_D_P
part E pins: 39 DP0_TXD0_N, 41 DP0_TXD0_P, 45 DP0_TXD1_N, 47 DP0_TXD1_P, 51 DP0_TXD2_N, 53 DP0_TXD2_P, 57 DP0_TXD3_N, 59 DP0_TXD3_P, 63 DP1_TXD0_N, 65 DP1_TXD0_P, 69 DP1_TXD1_N, 71 DP1_TXD1_P, 75 DP1_TXD2_N, 77 DP1_TXD2_P, 81 DP1_TXD3_N, 83 DP1_TXD3_P, 87 GPIO00, 88 DP0_HPD, 90 DP0_AUX_N, 92 DP0_AUX_P, 94 HDMI_CEC, 96 DP1_HPD, 98 DP1_AUX_N, 100 DP1_AUX_P, 206 GPIO07, 210 CLK_32K_OUT, 212 GPIO10, 218 GPIO12
part F pins: 131 PCIE0_RX0_N, 133 PCIE0_RX0_P, 134 PCIE0_TX0_N, 136 PCIE0_TX0_P, 137 PCIE0_RX1_N, 139 PCIE0_RX1_P, 140 PCIE0_TX1_N, 142 PCIE0_TX1_P, 148 PCIE0_TX2_N, 149 PCIE0_RX2_N, 150 PCIE0_TX2_P, 151 PCIE0_RX2_P, 154 PCIE0_TX3_N, 155 PCIE0_RX3_N, 156 PCIE0_TX3_P, 157 PCIE0_RX3_P, 160 PCIE0_CLK_N, 161 USBSS_RX_N, 162 PCIE0_CLK_P, 163 USBSS_RX_P, 166 USBSS_TX_N, 167 (PCIE1_RX0) RSVD, 168 USBSS_TX_P, 169 (PCIE1_RX0) RSVD, 172 (PCIE1_TX0) RSVD, 173 (PCIE1_CLK) RSVD, 174 (PCIE1_TX0) RSVD, 175 (PCIE1_CLK) RSVD, 179 PCIE_WAKE*, 180 PCIE0_CLKREQ*, 181 PCIE0_RST*, 182 (PCIE1_CLKREQ) RSVD, 183 (PCIE1_RST) RSVD
part G pins: 124 GPIO02, 126 GPIO03, 127 GPIO04, 128 GPIO05, 130 GPIO06, 143 (CAN_RX) RSVD, 145 (CAN_TX) RSVD, 178 MOD_SLEEP*, 184 ~{GBE_MDI0n}, 186 GBE_MDI0, 188 GBE_LED_LINK, 190 ~{GBE_MDI1n}, 192 GBE_MDI1, 193 I2S0_DOUT, 194 GBE_LED_ACT, 195 I2S0_DIN, 196 ~{GBE_MDI2n}, 197 I2S0_FS, 198 GBE_MDI2, 199 I2S0_SCLK, 202 ~{GBE_MDI3}, 204 GBE_MDI3, 211 GPIO09, 216 GPIO11, 219 SDMMC_DAT0, 220 I2S1_DOUT, 221 SDMMC_DAT1, 222 I2S1_DIN, 223 SDMMC_DAT2, 224 I2S1_FS, 225 SDMMC_DAT3, 226 I2S1_SCLK, 227 SDMMC_CMD, 228 GPIO13, 229 SDMMC_CLK

## LED
designator BOOT?, comment KPT-1608SGC  (value not drawn)
LED Green 0603 case; PartNumber: LED_G; Manufacturer: KINGBRIGHT; Value: KPT-1608SGC; PartSymbol: KPT-1608SGC
footprint LED0603
pins: A, K

## LM3671
designator IC?, comment LM3671MF-3.3
DC/DC Buck Converter; Manufacturer: TEXAS INSTRUMENTS; PartSymbol: LM3671MF-3.3/NOPB; Value: LM3671MF-3.3; PartNumber: LM3671MF-3.3
footprint SOT23-5N
pins: 1 VIN, 2 GND, 3 RUN, 4 FB, 6 SW

## LOGO
designator *
footprint LOGO

## LP2992AIM5-1.8
designator IC?, comment LP2985-33DBVR
Fixed LDO Voltage Regulator, 2.2V to 16V, 280mV Dropout, 3.3Vout, 150mAout, SOT-23-5; Manufacturer: TEXAS INSTRUMENTS; Value: LP2985-33DBVR; PartNumber: LP2985-33DBVR; PartSymbol: LP2985-33DBVR
footprint SOT23-5N
pins: 1 VIN, 2 GND, 3 ON/~{OFF}, 4 BYPASS, 6 VOUT

## LP2992AIM5-3.3
designator IC?, comment LP2985-33DBVR
Fixed LDO Voltage Regulator, 2.2V to 16V, 280mV Dropout, 3.3Vout, 150mAout, SOT-23-5; Manufacturer: TEXAS INSTRUMENTS; Value: LP2985-33DBVR; PartNumber: LP2985-33DBVR; PartSymbol: LP2985-33DBVR
footprint SOT23-5N
pins: 1 VIN, 2 GND, 3 ON/~{OFF}, 4 BYPASS, 6 VOUT

## LQH32PN2R2NN0L
designator L?
INDUCTOR, 2.2 ?H, ? 30%, 1212, 90 MHz, 0.073 ohm; Manufacturer: MURATA; Inductance: 2.2uH; PartNumber: LQH32PN2R2NN0L; Value: LQH32PN2R2NN0L; PartSymbol: LQH32PN2R2NN0L
footprint LQH32PN2R2NN0L
pins: 1, 2

## MARK
designator M?  (value not drawn)

## Micro USB B
designator J?, comment Molex 47346-0001  (value not drawn)
USB - micro B Receptacle Connector 5 Position Surface Mount, Right Angle, Horizontal; PartNumber: CON-Molex-47346-0001; PartSymbol: 473460001; Value: Molex 47346-0001; Manufacturer: Molex
footprint CON-Molex-047346-0001
pins: 1 VCC (power), 2 D-, 3 D+, 4 ID, 5 GND (power), S SHIELD

## Micro_SD
designator J4, comment 114-00841-68
Micro SD card holder; Part Number: AMP-114-00841-68; Manufacturer: AMPHENOL COMMERCIAL PRODUCTS; Value: 114-00841-68; Part Symbol: 114-00841-68
footprint 114-00841-68
pins: 1 DAT2, 2 CD/DAT3, 3 CMD, 4 VDD, 5 CLK, 6 VSS, 7 DAT0, 8 DAT1, 9 CD1, 10 CD2
text: SD Card

## miniDP
designator J?, comment 2129320-3
Mini Displayport Reverse Offset; Manufacturer: TE Connectivity; PartNumber: 2129320-3; Value: 2129320-3; PartSymbol: 2129320-3
footprint 2129320-3
pins: 1 GND, 2 HOTPLUG, 3 ML_LANE0_P, 4 CONFIG1, 5 ML_LANE0_N, 6 CONFIG2, 7 GND, 8 GND, 9 ML_LANE1_P, 10 ML_LANE3_P, 11 ML_LANE1_N, 12 ML_LANE3_N, 13 GND, 14 GND, 15 ML_LANE2_P, 16 AUX_CH_P, 17 ML_LANE2_N, 18 AUX_CH_N, 19 GND, 20 DP_PWR, 21 SHIELD, 22 SHIELD, 23 SHIELD, 24 SHIELD

## molex_2223-2021
designator FAN?, comment MX-22-23-2021  (value not drawn)
Pinhead connector with key; Manufacturer: Molex; PartNumber: molex_2223-2021; PartSymbol: 022232021 A-6373-02A222; Value: MX-22-23-2021
footprint molex_2223-2021
pins: 1, 2

## NCP380HSNAJAAT1G
designator IC?
POWER LOAD SWITCH, HIGH SIDE; Manufacturer: ON Semiconductor; Value: NCP380HSNAJAAT1G; PartNumber: NCP380HSNAJAAT1G; PartSymbol: NCP380HSNAJAAT1G
footprint TSOP-6
pins: 1 IN, 2 GND, 3 EN, 4 ~{FLAG}, 5 ILIM, 6 OUT

## NMOS
designator T?, comment BSS138PW
MOSFET, N CH, 60V, 0.2A; Manufacturer: NXP; Value: BSS138PW; PartNumber: BSS138PW; PartSymbol: BSS138PW
footprint SOT-23 (SOT23, 3-Leads, Body 2.90x2.45mm, Pitch 0.95mm, IPC Medium Density)
footprint SC70-3
pins: 1 G, 2 S, 3 D

## NMOS_PMV16XN
designator T?, comment PMV16XN
MOSFET, N CH; Manufacturer: NXP; Value: PMV16XN; PartNumber: PMV16XN; PartSymbol: PMV16XN
footprint SOT-23 (SOT23, 3-Leads, Body 2.90x2.45mm, Pitch 0.95mm, IPC Medium Density)
footprint SOT-23 (SOT23, 3-Leads, Body 2.90x2.45mm, Pitch 0.95mm, IPC Medium Density)
pins: 1 G, 2 S, 3 D

## PCA9517ATP
designator IC?
I2C BUS REPEATER W/ LEVEL TRANS, HWSON-8; Manufacturer: NXP; Value: PCA9517ATP; PartNumber: PCA9517ATP; PartSymbol: PCA9517ATP
footprint PCA9517ATP
pins: 1 SDAA, 2 GND, 3 EN, 4 SDAB, 5 SCLB, 6 VCCB, 7 VCCA, 8 SCLA, 9 EP

## PCIE-064-02-X-D-EMS2-BG
designator J
PCI EXPRESS EDGE MOUNT ASSEMBLY; MP: PCIE-064-02-F-D-EMS2-BG; MF: Samtec; Value: *; SnapEDA_Link: https://www.snapeda.com/parts/PCIE-064-02-F-D-EMS2-BG/Samtec/view-part/3370176/?ref=snap; Price: None; Package: None; Availability: Unavailable
footprint SAMTEC_PCIE-064-02-X-D-EMS2-BG
pins: A01 PRSNT#1, A02 +12V, A03 +12V, A04 GND, A05 JTAG2, A06 JTAG3, A07 JTAG4, A08 JTAG5, A09 +3V3, A10 +3V3, A11 PWRGD, A12 GND, A13 REFCLK+, A14 REFCLK-, A15 GND, A16 HSIp(0), A17 HSIn(0), A18 GND, A19 RSVD, A20 GND, A21 HSIp(1), A22 HSIn(1), A23 GND, A24 GND, A25 HSIp(2), A26 HSIn(2), A27 GND, A28 GND, A29 HSIp(3), A30 HSIn(3), A31 GND, A32 RSVD, B01 +12V, B02 +12V, B03 +12V, B04 GND, B05 SMCLK, B06 SMDAT, B07 GND, B08 +3V3, B09 JTAG1, B10 +3V3aux, B11 WAKE#, B12 RSVD, B13 GND, B14 HSOp(0), B15 HSOn(0), B16 GND, B17 PRSNT#2, B18 GND, B19 HSOp(1), B20 HSOn(1), B21 GND, B22 GND, B23 HSOp(2), B24 HSOn(2), B25 GND, B26 GND, B27 HSOp(3), B28 HOSn(3), B29 GND, B30 RSVD, B31 PRSNT#2, B32 GND

## PMOS
designator Q??, comment PMV32UP
P CH, 20V, 4A; Manufacturer: NXP; PartNumber: PMV32UP; Value: PMV32UP; PartSymbol: PMV32UP
footprint SOT-23 (SOT23, 3-Leads, Body 2.90x2.45mm, Pitch 0.95mm, IPC Medium Density)
pins: 1 G, 2 S, 3 D

## R_0R_0402
designator R?, comment 0R
RES, 0R, 0402; PartNumber: R_0R_0402; Manufacturer: Panasonic; PartSymbol: ERJ2GE0R00X; Value: 0R
footprint 0402
pins: 1, 2

## R_0R_0603
designator R?, comment 0R
RES, 0R, 0603; PartNumber: R_0R_0603; Manufacturer: BOURNS; PartSymbol: CR0603-J/-000ELF; Value: 0R
footprint 0603 (Chip Inductor Ferrite Bead 0603)
pins: 1, 2

## R_0R_1206
designator R?, comment 0R
RES, 0R, 1206; PartNumber: R_0R_1206; Manufacturer: MULTICOMP; PartSymbol: MCMR12X000 PTL; Value: 0R
footprint 1206
pins: 1, 2

## R_1k_0402
designator R?, comment 1k
RES, 1k, 0402; PartNumber: R_1k_0402; Manufacturer: BOURNS; PartSymbol: CR0402-FX-1001GLF; Value: 1k
footprint 0402
pins: 1, 2

## R_1M_0603
designator R?, comment 1M
RES, 1M, 0603; PartNumber: R_1M_0603; Manufacturer: BOURNS; PartSymbol: CR0603-JW-105GLF; Value: 1M
footprint 0603 (Chip Inductor Ferrite Bead 0603)
pins: 1, 2

## R_2k2_0402
designator R?, comment 2k2
RES, 2k2, 0402; PartNumber: R_2k2_0402; Manufacturer: MULTICOMP; PartSymbol: MCWR04X2201FTL; Value: 2k2
footprint 0402
pins: 1, 2

## R_2k_0402
designator R?, comment 2k
RES, 2k, 0402; PartNumber: R_2k_0402; Manufacturer: VISHAY; PartSymbol: CRCW04022K00FKED; Value: 2k
footprint 0402
pins: 1, 2

## R_4k7_0402
designator R?, comment 4k7
RES, 4k7, 0402; PartNumber: R_4k7_0402; Manufacturer: Panasonic; PartSymbol: ERJ2GEJ472X; Value: 4k7
footprint 0402
pins: 1, 2

## R_4k7_0603
designator R?, comment 4k7
RES, 4k7, 0603; PartNumber: R_4k7_0603; Manufacturer: BOURNS; PartSymbol: CR0603-FX-4701ELF; Value: 4k7
footprint 0603 (Chip Inductor Ferrite Bead 0603)
pins: 1, 2

## R_5k6_0603
designator R?, comment 10k2
RES, 5k6, 0603; PartNumber: R_5k6_0603; Manufacturer: Panasonic; PartSymbol: ERJ3GEYJ562V; Value: 10k2
footprint 0603 (Chip Inductor Ferrite Bead 0603)
pins: 1, 2

## R_5R6_0402
designator R?, comment 5R6
RES, 5R6, 0402; PartNumber: R_5R6_0402; Manufacturer: Panasonic; PartSymbol: ERJ2GEJ5R6X; Value: 5R6
footprint 0402
pins: 1, 2

## R_10k2_0402
designator R?, comment 10k2
RES, 10k2, 0402, 0.1%; PartNumber: R_10k2_0402_0.1%; Manufacturer: TE CONECTIVITY; PartSymbol: CPF0402B10K2E1; Tolerance: 0.1%; Value: 10k2
footprint 0402
pins: 1, 2

## R_10k_0402
designator R?, comment 10k
RES, 10k, 0402; PartNumber: R_10k_0402; Manufacturer: MULTICOMP; PartSymbol: MCMR04X1002FTL; Value: 10k
footprint 0402
pins: 1, 2

## R_10k_0603
designator R?, comment 10k
RES, 10k, 0603; PartNumber: R_10k_0603; Manufacturer: BOURNS; PartSymbol: CR0603-JW-103ELF; Value: 10k
footprint 0603 (Chip Inductor Ferrite Bead 0603)
pins: 1, 2

## R_16k9_0402
designator R?, comment 16k9
RES, 16k9, 0402; PartNumber: R_16k9_0402; Manufacturer: Panasonic; PartSymbol: ERA2AEB1692X; Value: 16k9
footprint 0402
pins: 1, 2

## R_22R_0402
designator R?, comment 22R
RES, 22R, 0402; PartNumber: R_22R_0402; Manufacturer: VISHAY; PartSymbol: CRCW040222R0FKED; Value: 22R
footprint 0402
pins: 1, 2

## R_49R9_0402
designator R?, comment 49R9
RES, 49R9, 0402; PartNumber: R_49R9_0402; Manufacturer: VISHAY; PartSymbol: CRCW040249R9FKED; Value: 49R9
footprint 0402
pins: 1, 2

## R_53k6_0402
designator R?, comment 53k6
RES, 53k6, 0402; PartNumber: R_53k6_0402; Manufacturer: TE CONECTIVITY; PartSymbol: CPF0402B53K6E1; Value: 53k6
footprint 0402
pins: 1, 2

## R_100k_0603
designator R?, comment 100k
RES, 100k, 0603; PartNumber: R_100k_0603; Manufacturer: BOURNS; PartSymbol: CR0603-FX-1003HLF; Value: 100k
footprint 0603 (Chip Inductor Ferrite Bead 0603)
pins: 1, 2

## R_200k_0402
designator R?, comment 200k
RES, 200k, 0402; PartNumber: R_200k_0402; Manufacturer: YAGEO; PartSymbol: RC0402FR-07200KL; Value: 200k
footprint 0402
pins: 1, 2

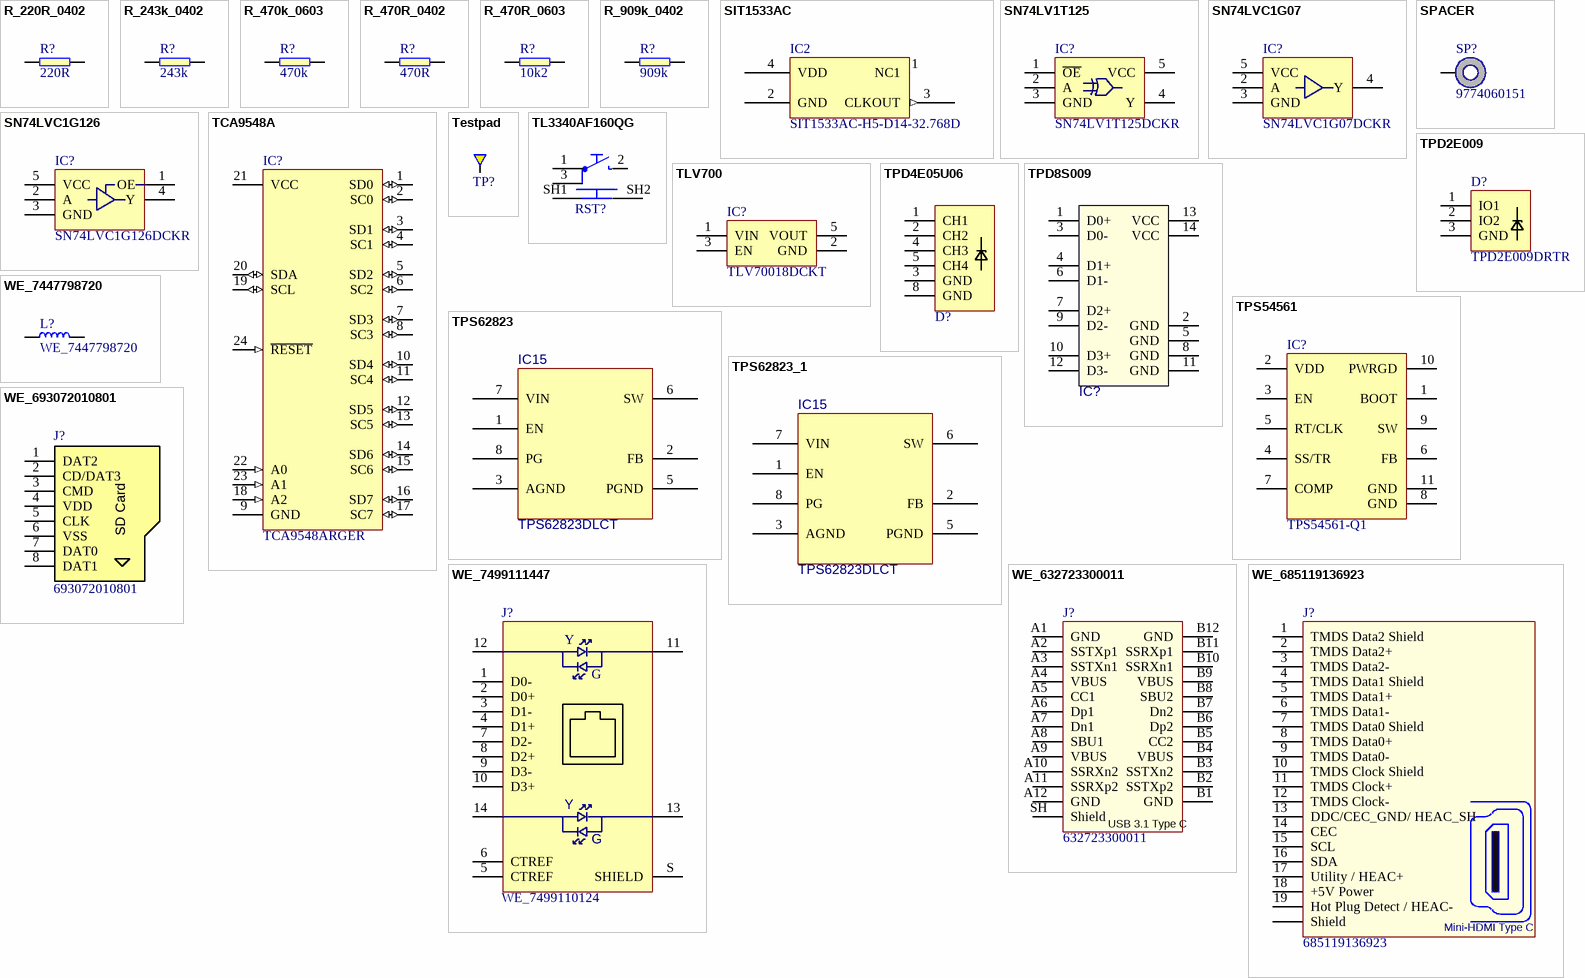
[diagram p4: symbols R_220R_0402 to WE_693072010801]

## R_220R_0402
designator R?, comment 220R
RES, 220R, 0402; PartNumber: R_220R_0402; Manufacturer: TE CONECTIVITY; PartSymbol: CRG0402J220R; Value: 220R
footprint 0402
pins: 1, 2

## R_243k_0402
designator R?, comment 243k
RES, 243k, 0402; PartNumber: R_243k_0402; Manufacturer: MULTICOMP; PartSymbol: MCMR04X2433FTL; Value: 243k
footprint 0402
pins: 1, 2

## R_470k_0603
designator R?, comment 470k
RES, 470k, 0603; PartNumber: R_470k_0603; Manufacturer: VISHAY; PartSymbol: CRCW0603470KFKEA; Value: 470k
footprint 0603 (Chip Inductor Ferrite Bead 0603)
pins: 1, 2

## R_470R_0402
designator R?, comment 470R
RES, 470R, 0402; PartNumber: R_470R_0402; Manufacturer: VISHAY; PartSymbol: CRCW0402470RFKED.; Value: 470R
footprint 0402
pins: 1, 2

## R_470R_0603
designator R?, comment 10k2
RES, 470R, 0603; PartNumber: R_470R_0603; Manufacturer: BOURNS; PartSymbol: CR0603-JW-471GLF; Tolerance: 0.1%; Value: 10k2
footprint 0603 (Chip Inductor Ferrite Bead 0603)
pins: 1, 2

## R_909k_0402
designator R?, comment 909k
RES, 909k, 0402; PartNumber: R_909k_0402; Manufacturer: Panasonic; PartSymbol: ERJ2RKF9093X; Value: 909k
footprint 0402
pins: 1, 2

## SIT1533AC
designator IC2, comment SIT1533AC-H5-D14-32.768D
32.768kHz LVCMOS MEMS (Silicon) Oscillator Surface Mount 1.2 V ~ 3.63 V 1.3?A; Manufacturer: SiTIME; PartNumber: SIT1533AC-H5-D14-32.768D; Value: SIT1533AC-H5-D14-32.768D; PartSymbol: SIT1533AC-H5-D14-32.768D
footprint SIT1533AC
pins: 1 NC1, 2 GND, 3 CLKOUT (out), 4 VDD (power)

## SN74LV1T125
designator IC?, comment SN74LV1T125DCKR
Buffer, 74LV1T125, 1.6 V to 5.5 V, SOT-23-5; Manufacturer: Texas Instruments; PartNumber: SN74LV1T125DCKR; Value: SN74LV1T125DCKR; PartSymbol: SN74LV1T125DCKR
footprint SC70-5
pins: 1 ~{OE}, 2 A, 3 GND, 4 Y, 5 VCC

## SN74LVC1G07
designator IC?, comment SN74LVC1G07DCKR
Buffer, open drain; Manufacturer: Texas Instruments; PartSymbol: SN74LVC1G07GW; PartNumber: SN74LVC1G07DCKR; Value: SN74LVC1G07DCKR
footprint R-PDSO-G5
pins: 2 A, 3 GND, 4 Y, 5 VCC

## SN74LVC1G126
designator IC?, comment SN74LVC1G126DCKR
Buffer, tri-state; Manufacturer: Texas Instruments; PartNumber: SN74LVC1G126DCKR; Value: SN74LVC1G126DCKR; PartSymbol: SN74LVC1G126DCKR
footprint R-PDSO-G5
pins: 1 OE, 2 A, 3 GND, 4 Y, 5 VCC

## SPACER
designator SP?, comment 9774060151
M2.5-6mm; PartNumber: M2.5x6; Manufacturer: WURTH ELEKTRONIK; Value: 9774060151; PartSymbol: 9774060151
footprint M2.5-6mm
pins: 1

## TCA9548A
designator IC?, comment TCA9548ARGER
TCA9548ARGER  I2C SWITCH W/ RESET, 8-CH, VQFN-24; Manufacturer: TEXAS INSTRUMENTS; Value: TCA9548ARGER; PartNumber: TCA9548ARGER; PartSymbol: TCA9548ARGER
footprint VQFN-24
pins: 1 SD0 (io), 2 SC0 (io), 3 SD1 (io), 4 SC1 (io), 5 SD2 (io), 6 SC2 (io), 7 SD3 (io), 8 SC3 (io), 9 GND (power), 10 SD4 (io), 11 SC4 (io), 12 SD5 (io), 13 SC5 (io), 14 SD6 (io), 15 SC6 (io), 16 SD7 (io), 17 SC7 (io), 18 A2 (in), 19 SCL (io), 20 SDA (io), 21 VCC (power), 22 A0 (in), 23 A1 (in), 24 ~{RESET} (in)

## Testpad
designator TP?  (value not drawn)  (no BOM)
Testpad, round, 1.5mm; PartNumber: TP-R-1.5
footprint TP-R-1.5
pins: 1

## TL3340AF160QG
designator RST?  (value not drawn)
E-SWITCH  TL3340AF160QG  SWITCH, TACTILE SPST 50mA, SMD GULL WING; Value: TL3340AF160QG; Manufacturer: E-SWITCH; PartNumber: TL3340AF160QG; PartSymbol: TL3340AF160QG
footprint TL3340AF160QG
pins: 1, 2, 3, SH1, SH2

## TLV700
designator IC?, comment TLV70018DCKT
Voltage Regulator, 2V to 5.5V, 175mV Dropout, 1.8Vout, 200mAout; Manufacturer: TEXAS INSTRUMENTS; Value: TLV70018DCKT; PartNumber: TLV70018DCKT; PartSymbol: TLV70018DCKT
footprint SC70-5
pins: 1 VIN, 2 GND, 3 EN, 5 VOUT

## TPD2E009
designator D?, comment TPD2E009DRTR
ESD Suppressors 2-CH; Manufacturer: Texas Instruments; Value: TPD2E009DRTR; PartNumber: TPD2E009DRTR; PartSymbol: TPD2E009DRTR
footprint SOT-3
pins: 1 IO1, 2 IO2, 3 GND

## TPD4E05U06
designator D?  (value not drawn)
ESD Suppressors 4-CH; PartNumber: TPD4E05U06_PASS; Manufacturer: Texas Instruments; PartSymbol: TPD4E05U06DQAR; Value: TPD4E05U06
footprint TPD4E05U06_PASS
pins: 1 CH1, 2 CH2, 3 GND, 4 CH3, 5 CH4, 8 GND

## TPD8S009
designator IC?  (value not drawn)
8-Channel ESD Protection for DisplayPort and HDMI; Manufacturer: TEXAS INSTRUMENTS; PartSymbol: TPD8S009DSMR; Value: TPD8S009; PartNumber: TPD8S009
footprint SON-15
pins: 1 D0+, 2 GND, 3 D0-, 4 D1+, 5 GND, 6 D1-, 7 D2+, 8 GND, 9 D2-, 10 D3+, 11 GND, 12 D3-, 13 VCC, 14 VCC
1 alternate drawing of the same symbol

## TPS54561
designator IC?, comment TPS54561-Q1
IC REG BCK SPLIT RAIL ADJ 10WSON; Manufacturer: TEXAS INSTRUMENTS; PartNumber: TPS54561-Q1; Value: TPS54561-Q1; PartSymbol: TPS54561-Q1
footprint WSON-10_4x4
pins: 1 BOOT, 2 VDD, 3 EN, 4 SS/TR, 5 RT/CLK, 6 FB, 7 COMP, 8 GND, 9 SW, 10 PWRGD, 11 GND

## TPS62823
designator IC15, comment TPS62823DLCT
IC REG BUCK ADJ 1A 8VSON-HR; Manufacturer: TEXAS INSTRUMENTS; PartNumber: TPS62823; Value: TPS62823DLCT; PartSymbol: TPS62823DLCT; Class: IC
footprint TPS62823
pins: 1 EN, 2 FB, 3 AGND, 5 PGND, 6 SW, 7 VIN, 8 PG

## TPS62823_1
designator IC15, comment TPS62823DLCT
IC REG BUCK ADJ 1A 8VSON-HR; Manufacturer: TEXAS INSTRUMENTS; PartNumber: TPS62823; Value: TPS62823DLCT; Supplier1: Digi-Key; SupplierPartNumber1: 296-50225-1-ND; PartSymbol: TPS62823DLCT; Class: IC
footprint TPS62823
pins: 1 EN, 2 FB, 3 AGND, 5 PGND, 6 SW, 7 VIN, 8 PG

## WE_7447798720
designator L?
Fixed Inductors WE-PDF 1064 7.2uH 7.9A 12.8mOhm; Manufacturer: WURTH ELEKTRONIK; PartNumber: WE_7447798720; Value: WE_7447798720; RatedCurrent: 7.9A; Inductance: 7.2uH; PartSymbol: 7447798720
footprint WE_7447798720
pins: 1, 2

## WE_7499111447
designator J?, comment WE_7499110124
LAN-Transformer WE-RJ45LAN 10/100/1000 BaseT; Manufacturer: Wurth Elektronik; PartNumber: WE_7499110124; Value: WE_7499110124; PartSymbol: WE_7499110124
footprint WE_7499110124
pins: 1 D0-, 2 D0+, 3 D1-, 4 D1+, 5 CTREF, 6 CTREF, 7 D2-, 8 D2+, 9 D3-, 10 D3+, 11, 12, 13, 14, S SHIELD
text: Y; G

## WE_632723300011
designator J?, comment 632723300011
USB 3.1 Type C Receptacle Horizontal THR WR-COM; PartNumber: WE_632723300011; Manufacturer: WURTH ELEKTRONIK; Value: 632723300011; PartSymbol: 632723300011
footprint WE_632723300011
pins: A1 GND, A2 SSTXp1, A3 SSTXn1, A4 VBUS, A5 CC1, A6 Dp1, A7 Dn1, A8 SBU1, A9 VBUS, A10 SSRXn2, A11 SSRXp2, A12 GND, B1 GND, B2 SSTXp2, B3 SSTXn2, B4 VBUS, B5 CC2, B6 Dp2, B7 Dn2, B8 SBU2, B9 VBUS, B10 SSRXn1, B11 SSRXp1, B12 GND, SH Shield
text: USB 3.1 Type C

## WE_685119136923
designator J?, comment 685119136923
CONN HDMI FEMALE R/A 19POS 2.6MM; PartNumber: WE_685119136923; Manufacturer: WURTH ELEKTRONIK; Value: 685119136923; PartSymbol: WE_685119136923
footprint WE_685119136923
pins: 1 TMDS Data2 Shield, 2 TMDS Data2+, 3 TMDS Data2-, 4 TMDS Data1 Shield, 5 TMDS Data1+, 6 TMDS Data1-, 7 TMDS Data0 Shield, 8 TMDS Data0+, 9 TMDS Data0-, 10 TMDS Clock Shield, 11 TMDS Clock+, 12 TMDS Clock-, 13 DDC/CEC_GND/ HEAC_SH, 14 CEC, 15 SCL, 16 SDA, 17 Utility / HEAC+, 18 +5V Power, 19 Hot Plug Detect / HEAC-, Shell Shield
text: Mini-HDMI Type C

## WE_693072010801
designator J?, comment 693072010801
Memory Socket, Micro SD, 8 Contacts; PartNumber: WE_693072010801; Manufacturer: WURTH ELEKTRONIK; Pinsnumber: 8; Value: 693072010801; MPN: 693072010801
footprint WE_693072010801
pins: 1 DAT2, 2 CD/DAT3, 3 CMD, 4 VDD, 5 CLK, 6 VSS, 7 DAT0, 8 DAT1
text: SD Card